# EAGLE library part LSM9DS0-LGA-24 (library ST LSM9DS0TR)
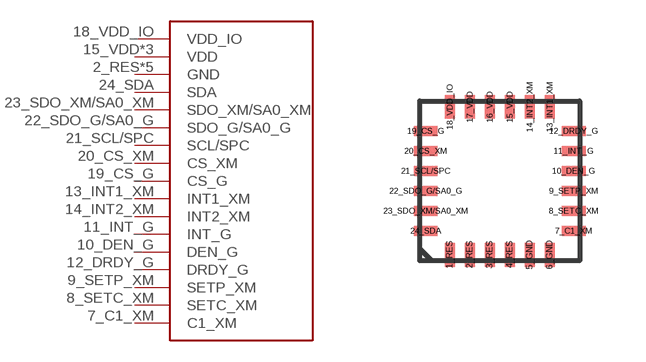
[diagram p0: symbol with the pads of LGA-24; footprint LGA-24]

Designator prefix -

## LSM9DS0-LGA-24  [LGA-24]
2_RES  GND
3_RES  GND
4_RES  GND
5_GND  GND
6_GND  GND
7_C1_XM  C1_XM
8_SETC_XM  SETC_XM
9_SETP_XM  SETP_XM
10_DEN_G  DEN_G
11_INT_G  INT_G
12_DRDY_G  DRDY_G
13_INT1_XM  INT1_XM
14_INT2_XM  INT2_XM
15_VDD  VDD
16_VDD  VDD
17_VDD  VDD
18_VDD_IO  VDD_IO
19_CS_G  CS_G
20_CS_XM  CS_XM
21_SCL/SPC  SCL/SPC
22_SDO_G/SA0_G  SDO_G/SA0_G
23_SDO_XM/SA0_XM  SDO_XM/SA0_XM
24_SDA  SDA

## Footprint LGA-24 (pad centres in mm)
smd 0.25 x 0.6: 1_RES -1.25,-1.85; 2_RES -0.75,-1.85; 3_RES -0.25,-1.85; 4_RES 0.25,-1.85; 5_GND 0.75,-1.85; 6_GND 1.25,-1.85; 13_INT1_XM 1.25,1.85; 14_INT2_XM 0.75,1.85; 15_VDD 0.25,1.85; 16_VDD -0.25,1.85; 17_VDD -0.75,1.85; 18_VDD_IO -1.25,1.85
smd 0.6 x 0.25: 7_C1_XM 1.85,-1.25; 8_SETC_XM 1.85,-0.75; 9_SETP_XM 1.85,-0.25; 10_DEN_G 1.85,0.25; 11_INT_G 1.85,0.75; 12_DRDY_G 1.85,1.25; 19_CS_G -1.85,1.25; 20_CS_XM -1.85,0.75; 21_SCL/SPC -1.85,0.25; 22_SDO_G/SA0_G -1.85,-0.25; 23_SDO_XM/SA0_XM -1.85,-0.75; 24_SDA -1.85,-1.25